# Altium integrated library Xilinx Spartan-3 FPGA.IntLib: 1115 symbols (part 6 of 7)
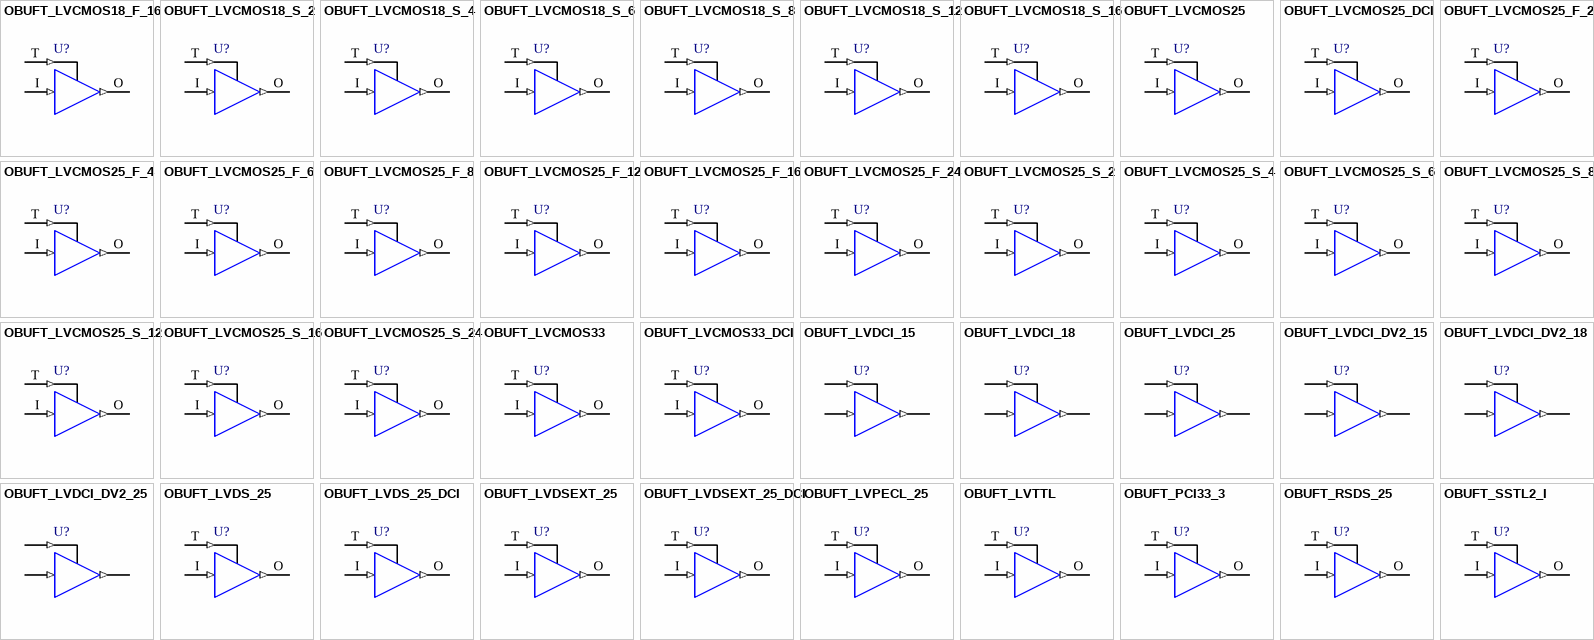
[diagram p33: symbols OBUFT_LVCMOS18_F_16 to OBUFT_SSTL2_I]

## OBUFT_LVDCI_15
designator U?
Single 3-State Output Buffer with Active-Low Output Enable and LVDCI_15 I/O Interface; FPGAVendor: Xilinx; Published: 15-Sep-2003; Publisher: Altium Limited; HelpURL: http://toolbox.xilinx.com/docsan/xilinx7/books/docs/lib/lib.pdf
pins: I (in), O (out), T (in)

## OBUFT_LVDCI_18
designator U?
Single 3-State Output Buffer with Active-Low Output Enable and LVDCI_18 I/O Interface; FPGAVendor: Xilinx; Published: 15-Sep-2003; Publisher: Altium Limited; HelpURL: http://toolbox.xilinx.com/docsan/xilinx7/books/docs/lib/lib.pdf
pins: I (in), O (out), T (in)

## OBUFT_LVDCI_25
designator U?
Single 3-State Output Buffer with Active-Low Output Enable and LVDCI_25 I/O Interface; FPGAVendor: Xilinx; Published: 15-Sep-2003; Publisher: Altium Limited; HelpURL: http://toolbox.xilinx.com/docsan/xilinx7/books/docs/lib/lib.pdf
pins: I (in), O (out), T (in)

## OBUFT_LVDCI_DV2_15
designator U?
Single 3-State Output Buffer with Active-Low Output Enable and LVDCI_DV2_15 I/O Interface; FPGAVendor: Xilinx; Published: 15-Sep-2003; Publisher: Altium Limited; HelpURL: http://toolbox.xilinx.com/docsan/xilinx7/books/docs/lib/lib.pdf
pins: I (in), O (out), T (in)

## OBUFT_LVDCI_DV2_18
designator U?
Single 3-State Output Buffer with Active-Low Output Enable and LVDCI_DV2_18 I/O Interface; FPGAVendor: Xilinx; Published: 15-Sep-2003; Publisher: Altium Limited; HelpURL: http://toolbox.xilinx.com/docsan/xilinx7/books/docs/lib/lib.pdf
pins: I (in), O (out), T (in)

## OBUFT_LVDCI_DV2_25
designator U?
Single 3-State Output Buffer with Active-Low Output Enable and LVDCI_DV2_25 I/O Interface; FPGAVendor: Xilinx; Published: 15-Sep-2003; Publisher: Altium Limited; HelpURL: http://toolbox.xilinx.com/docsan/xilinx7/books/docs/lib/lib.pdf
pins: I (in), O (out), T (in)

## OBUFT_LVDS_25
designator U?
Single 3-State Output Buffer with Active-Low Output Enable and Seletable I/O Interface; FPGAVendor: Xilinx; Published: 15-Sep-2008; Publisher: Altium Limited; HelpURL: http://www.xilinx.com/support/documentation/data_sheets/ds099.pdf
pins: I (in), O (out), T (in)

## OBUFT_LVDS_25_DCI
designator U?
Single 3-State Output Buffer with Active-Low Output Enable and Seletable I/O Interface; FPGAVendor: Xilinx; Published: 15-Sep-2008; Publisher: Altium Limited; HelpURL: http://www.xilinx.com/support/documentation/data_sheets/ds099.pdf
pins: I (in), O (out), T (in)

## OBUFT_LVDSEXT_25
designator U?
Single 3-State Output Buffer with Active-Low Output Enable and Seletable I/O Interface; FPGAVendor: Xilinx; Published: 15-Sep-2008; Publisher: Altium Limited; HelpURL: http://www.xilinx.com/support/documentation/data_sheets/ds099.pdf
pins: I (in), O (out), T (in)

## OBUFT_LVDSEXT_25_DCI
designator U?
Single 3-State Output Buffer with Active-Low Output Enable and Seletable I/O Interface; FPGAVendor: Xilinx; Published: 15-Sep-2008; Publisher: Altium Limited; HelpURL: http://www.xilinx.com/support/documentation/data_sheets/ds099.pdf
pins: I (in), O (out), T (in)

## OBUFT_LVPECL_25
designator U?
Single 3-State Output Buffer with Active-Low Output Enable and Seletable I/O Interface; FPGAVendor: Xilinx; Published: 15-Sep-2008; Publisher: Altium Limited; HelpURL: http://www.xilinx.com/support/documentation/data_sheets/ds099.pdf
pins: I (in), O (out), T (in)

## OBUFT_LVTTL
designator U?
Single 3-State Output Buffer with Active-Low Output Enable and Seletable I/O Interface; FPGAVendor: Xilinx; Published: 15-Sep-2008; Publisher: Altium Limited; HelpURL: http://www.xilinx.com/support/documentation/data_sheets/ds099.pdf
pins: I (in), O (out), T (in)

## OBUFT_PCI33_3
designator U?
Single 3-State Output Buffer with Active-Low Output Enable and Seletable I/O Interface; FPGAVendor: Xilinx; Published: 15-Sep-2008; Publisher: Altium Limited; HelpURL: http://www.xilinx.com/support/documentation/data_sheets/ds099.pdf
pins: I (in), O (out), T (in)

## OBUFT_RSDS_25
designator U?
Single 3-State Output Buffer with Active-Low Output Enable and Seletable I/O Interface; FPGAVendor: Xilinx; Published: 15-Sep-2008; Publisher: Altium Limited; HelpURL: http://www.xilinx.com/support/documentation/data_sheets/ds099.pdf
pins: I (in), O (out), T (in)

## OBUFT_SSTL2_I
designator U?
Single 3-State Output Buffer with Active-Low Output Enable and SSTL2_I I/O Interface; FPGAVendor: Xilinx; Published: 15-Sep-2003; Publisher: Altium Limited; HelpURL: http://toolbox.xilinx.com/docsan/xilinx7/books/docs/lib/lib.pdf
pins: I (in), O (out), T (in)

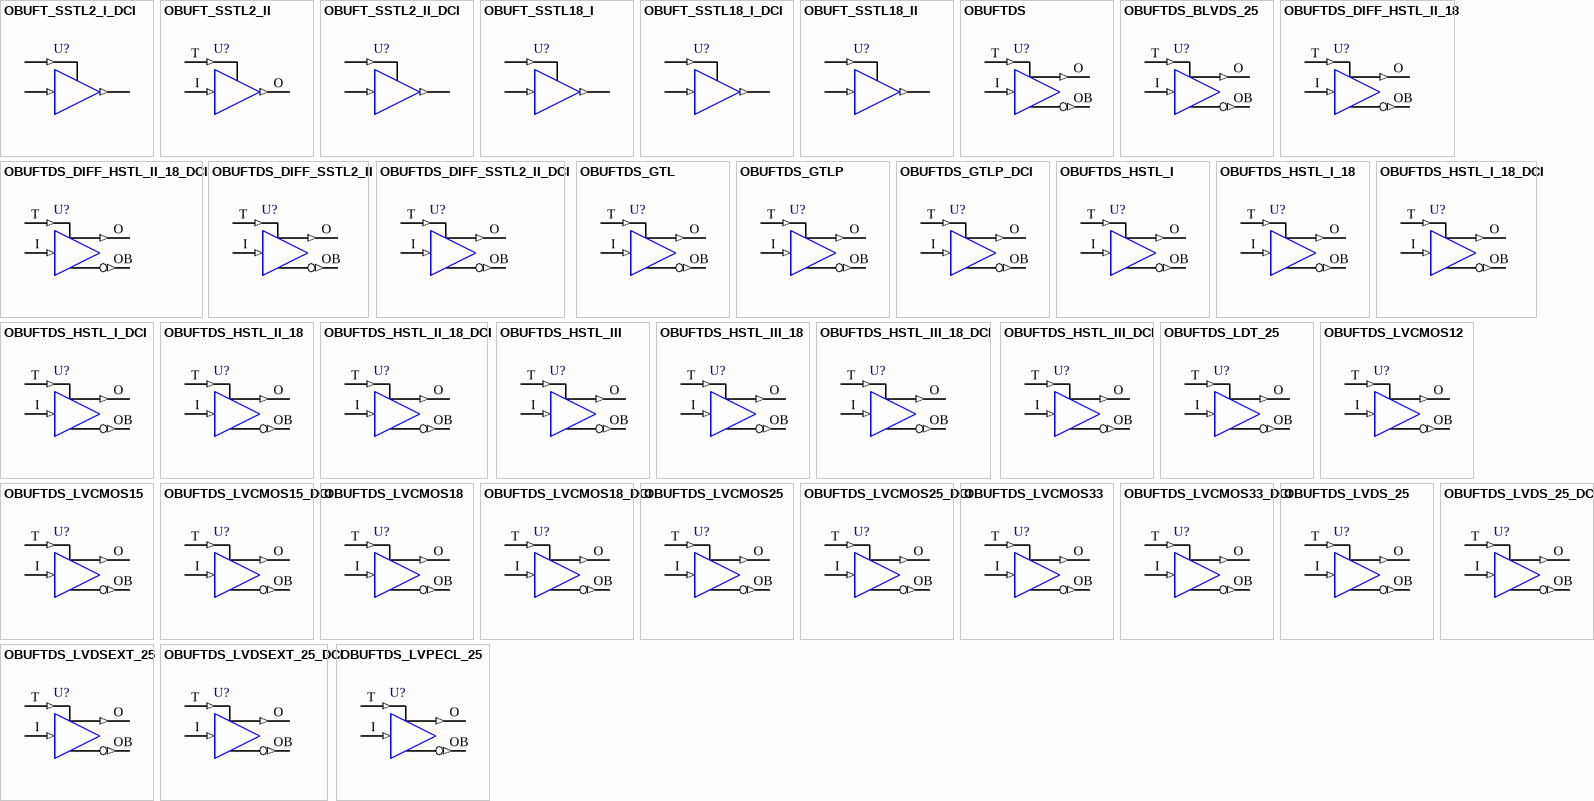
[diagram p23: symbols OBUFT_SSTL2_I_DCI to OBUFTDS_LVPECL_25]

## OBUFT_SSTL2_I_DCI
designator U?
Single 3-State Output Buffer with Active-Low Output Enable and SSTL2_I_DCI I/O Interface; FPGAVendor: Xilinx; Published: 15-Sep-2003; Publisher: Altium Limited; HelpURL: http://toolbox.xilinx.com/docsan/xilinx7/books/docs/lib/lib.pdf
pins: I (in), O (out), T (in)

## OBUFT_SSTL2_II
designator U?
Single 3-State Output Buffer with Active-Low Output Enable and SSTL2_II I/O Interface; FPGAVendor: Xilinx; Published: 15-Sep-2003; Publisher: Altium Limited; HelpURL: http://toolbox.xilinx.com/docsan/xilinx7/books/docs/lib/lib.pdf
pins: I (in), O (out), T (in)

## OBUFT_SSTL2_II_DCI
designator U?
Single 3-State Output Buffer with Active-Low Output Enable and SSTL2_II_DCI I/O Interface; FPGAVendor: Xilinx; Published: 15-Sep-2003; Publisher: Altium Limited; HelpURL: http://toolbox.xilinx.com/docsan/xilinx7/books/docs/lib/lib.pdf
pins: I (in), O (out), T (in)

## OBUFT_SSTL18_I
designator U?
Single 3-State Output Buffer with Active-Low Output Enable and SSTL18_I I/O Interface; FPGAVendor: Xilinx; Published: 15-Sep-2003; Publisher: Altium Limited; HelpURL: http://toolbox.xilinx.com/docsan/xilinx7/books/docs/lib/lib.pdf
pins: I (in), O (out), T (in)

## OBUFT_SSTL18_I_DCI
designator U?
Single 3-State Output Buffer with Active-Low Output Enable and SSTL18_I_DCI I/O Interface; FPGAVendor: Xilinx; Published: 15-Sep-2003; Publisher: Altium Limited; HelpURL: http://toolbox.xilinx.com/docsan/xilinx7/books/docs/lib/lib.pdf
pins: I (in), O (out), T (in)

## OBUFT_SSTL18_II
designator U?
Single 3-State Output Buffer with Active-Low Output Enable and SSTL18_II I/O Interface; FPGAVendor: Xilinx; Published: 15-Sep-2003; Publisher: Altium Limited; HelpURL: http://toolbox.xilinx.com/docsan/xilinx7/books/docs/lib/lib.pdf
pins: I (in), O (out), T (in)

## OBUFTDS
designator U?
3-State Differential Signaling Output Buffer with Active Low Output Enable and Selectable I/O Interface; FPGAVendor: Xilinx; Published: 20-May-2005; Publisher: Altium Limited; HelpURL: http://toolbox.xilinx.com/docsan/xilinx7/books/docs/lib/lib.pdf
pins: I (in), O (out), OB (out), T (in)

## OBUFTDS_BLVDS_25
designator U?
3-State Differential Signaling Output Buffer with Active Low Output Enable and Selectable I/O Interface; FPGAVendor: Xilinx; Published: 15-Sep-2008; Publisher: Altium Limited; HelpURL: http://www.xilinx.com/support/documentation/data_sheets/ds099.pdf
pins: I (in), O (out), OB (out), T (in)

## OBUFTDS_DIFF_HSTL_II_18
designator U?
3-State Differential Signaling Output Buffer with Active Low Output Enable and Selectable I/O Interface; FPGAVendor: Xilinx; Published: 15-Sep-2008; Publisher: Altium Limited; HelpURL: http://www.xilinx.com/support/documentation/data_sheets/ds099.pdf
pins: I (in), O (out), OB (out), T (in)

## OBUFTDS_DIFF_HSTL_II_18_DCI
designator U?
3-State Differential Signaling Output Buffer with Active Low Output Enable and Selectable I/O Interface; FPGAVendor: Xilinx; Published: 15-Sep-2008; Publisher: Altium Limited; HelpURL: http://www.xilinx.com/support/documentation/data_sheets/ds099.pdf
pins: I (in), O (out), OB (out), T (in)

## OBUFTDS_DIFF_SSTL2_II
designator U?
3-State Differential Signaling Output Buffer with Active Low Output Enable and Selectable I/O Interface; FPGAVendor: Xilinx; Published: 15-Sep-2008; Publisher: Altium Limited; HelpURL: http://www.xilinx.com/support/documentation/data_sheets/ds099.pdf
pins: I (in), O (out), OB (out), T (in)

## OBUFTDS_DIFF_SSTL2_II_DCI
designator U?
3-State Differential Signaling Output Buffer with Active Low Output Enable and Selectable I/O Interface; FPGAVendor: Xilinx; Published: 15-Sep-2008; Publisher: Altium Limited; HelpURL: http://www.xilinx.com/support/documentation/data_sheets/ds099.pdf
pins: I (in), O (out), OB (out), T (in)

## OBUFTDS_GTL
designator U?
3-State Differential Signaling Output Buffer with Active Low Output Enable and Selectable I/O Interface; FPGAVendor: Xilinx; Published: 15-Sep-2008; Publisher: Altium Limited; HelpURL: http://www.xilinx.com/support/documentation/data_sheets/ds099.pdf
pins: I (in), O (out), OB (out), T (in)

## OBUFTDS_GTLP
designator U?
3-State Differential Signaling Output Buffer with Active Low Output Enable and Selectable I/O Interface; FPGAVendor: Xilinx; Published: 15-Sep-2008; Publisher: Altium Limited; HelpURL: http://www.xilinx.com/support/documentation/data_sheets/ds099.pdf
pins: I (in), O (out), OB (out), T (in)

## OBUFTDS_GTLP_DCI
designator U?
3-State Differential Signaling Output Buffer with Active Low Output Enable and Selectable I/O Interface; FPGAVendor: Xilinx; Published: 15-Sep-2008; Publisher: Altium Limited; HelpURL: http://www.xilinx.com/support/documentation/data_sheets/ds099.pdf
pins: I (in), O (out), OB (out), T (in)

## OBUFTDS_HSTL_I
designator U?
3-State Differential Signaling Output Buffer with Active Low Output Enable and Selectable I/O Interface; FPGAVendor: Xilinx; Published: 15-Sep-2008; Publisher: Altium Limited; HelpURL: http://www.xilinx.com/support/documentation/data_sheets/ds099.pdf
pins: I (in), O (out), OB (out), T (in)

## OBUFTDS_HSTL_I_18
designator U?
3-State Differential Signaling Output Buffer with Active Low Output Enable and Selectable I/O Interface; FPGAVendor: Xilinx; Published: 15-Sep-2008; Publisher: Altium Limited; HelpURL: http://www.xilinx.com/support/documentation/data_sheets/ds099.pdf
pins: I (in), O (out), OB (out), T (in)

## OBUFTDS_HSTL_I_18_DCI
designator U?
3-State Differential Signaling Output Buffer with Active Low Output Enable and Selectable I/O Interface; FPGAVendor: Xilinx; Published: 15-Sep-2008; Publisher: Altium Limited; HelpURL: http://www.xilinx.com/support/documentation/data_sheets/ds099.pdf
pins: I (in), O (out), OB (out), T (in)

## OBUFTDS_HSTL_I_DCI
designator U?
3-State Differential Signaling Output Buffer with Active Low Output Enable and Selectable I/O Interface; FPGAVendor: Xilinx; Published: 15-Sep-2008; Publisher: Altium Limited; HelpURL: http://www.xilinx.com/support/documentation/data_sheets/ds099.pdf
pins: I (in), O (out), OB (out), T (in)

## OBUFTDS_HSTL_II_18
designator U?
3-State Differential Signaling Output Buffer with Active Low Output Enable and Selectable I/O Interface; FPGAVendor: Xilinx; Published: 15-Sep-2008; Publisher: Altium Limited; HelpURL: http://www.xilinx.com/support/documentation/data_sheets/ds099.pdf
pins: I (in), O (out), OB (out), T (in)

## OBUFTDS_HSTL_II_18_DCI
designator U?
3-State Differential Signaling Output Buffer with Active Low Output Enable and Selectable I/O Interface; FPGAVendor: Xilinx; Published: 15-Sep-2008; Publisher: Altium Limited; HelpURL: http://www.xilinx.com/support/documentation/data_sheets/ds099.pdf
pins: I (in), O (out), OB (out), T (in)

## OBUFTDS_HSTL_III
designator U?
3-State Differential Signaling Output Buffer with Active Low Output Enable and Selectable I/O Interface; FPGAVendor: Xilinx; Published: 15-Sep-2008; Publisher: Altium Limited; HelpURL: http://www.xilinx.com/support/documentation/data_sheets/ds099.pdf
pins: I (in), O (out), OB (out), T (in)

## OBUFTDS_HSTL_III_18
designator U?
3-State Differential Signaling Output Buffer with Active Low Output Enable and Selectable I/O Interface; FPGAVendor: Xilinx; Published: 15-Sep-2008; Publisher: Altium Limited; HelpURL: http://www.xilinx.com/support/documentation/data_sheets/ds099.pdf
pins: I (in), O (out), OB (out), T (in)

## OBUFTDS_HSTL_III_18_DCI
designator U?
3-State Differential Signaling Output Buffer with Active Low Output Enable and Selectable I/O Interface; FPGAVendor: Xilinx; Published: 15-Sep-2008; Publisher: Altium Limited; HelpURL: http://www.xilinx.com/support/documentation/data_sheets/ds099.pdf
pins: I (in), O (out), OB (out), T (in)

## OBUFTDS_HSTL_III_DCI
designator U?
3-State Differential Signaling Output Buffer with Active Low Output Enable and Selectable I/O Interface; FPGAVendor: Xilinx; Published: 15-Sep-2008; Publisher: Altium Limited; HelpURL: http://www.xilinx.com/support/documentation/data_sheets/ds099.pdf
pins: I (in), O (out), OB (out), T (in)

## OBUFTDS_LDT_25
designator U?
3-State Differential Signaling Output Buffer with Active Low Output Enable and LDT_25 I/O Interface; FPGAVendor: Xilinx; Published: 15-Sep-2003; Publisher: Altium Limited; HelpURL: http://toolbox.xilinx.com/docsan/xilinx7/books/docs/lib/lib.pdf
pins: I (in), O (out), OB (out), T (in)

## OBUFTDS_LVCMOS12
designator U?
3-State Differential Signaling Output Buffer with Active Low Output Enable and Selectable I/O Interface; FPGAVendor: Xilinx; Published: 15-Sep-2008; Publisher: Altium Limited; HelpURL: http://www.xilinx.com/support/documentation/data_sheets/ds099.pdf
pins: I (in), O (out), OB (out), T (in)

## OBUFTDS_LVCMOS15
designator U?
3-State Differential Signaling Output Buffer with Active Low Output Enable and Selectable I/O Interface; FPGAVendor: Xilinx; Published: 15-Sep-2008; Publisher: Altium Limited; HelpURL: http://www.xilinx.com/support/documentation/data_sheets/ds099.pdf
pins: I (in), O (out), OB (out), T (in)

## OBUFTDS_LVCMOS15_DCI
designator U?
3-State Differential Signaling Output Buffer with Active Low Output Enable and Selectable I/O Interface; FPGAVendor: Xilinx; Published: 15-Sep-2008; Publisher: Altium Limited; HelpURL: http://www.xilinx.com/support/documentation/data_sheets/ds099.pdf
pins: I (in), O (out), OB (out), T (in)

## OBUFTDS_LVCMOS18
designator U?
3-State Differential Signaling Output Buffer with Active Low Output Enable and Selectable I/O Interface; FPGAVendor: Xilinx; Published: 15-Sep-2008; Publisher: Altium Limited; HelpURL: http://www.xilinx.com/support/documentation/data_sheets/ds099.pdf
pins: I (in), O (out), OB (out), T (in)

## OBUFTDS_LVCMOS18_DCI
designator U?
3-State Differential Signaling Output Buffer with Active Low Output Enable and Selectable I/O Interface; FPGAVendor: Xilinx; Published: 15-Sep-2008; Publisher: Altium Limited; HelpURL: http://www.xilinx.com/support/documentation/data_sheets/ds099.pdf
pins: I (in), O (out), OB (out), T (in)

## OBUFTDS_LVCMOS25
designator U?
3-State Differential Signaling Output Buffer with Active Low Output Enable and Selectable I/O Interface; FPGAVendor: Xilinx; Published: 15-Sep-2008; Publisher: Altium Limited; HelpURL: http://www.xilinx.com/support/documentation/data_sheets/ds099.pdf
pins: I (in), O (out), OB (out), T (in)

## OBUFTDS_LVCMOS25_DCI
designator U?
3-State Differential Signaling Output Buffer with Active Low Output Enable and Selectable I/O Interface; FPGAVendor: Xilinx; Published: 15-Sep-2008; Publisher: Altium Limited; HelpURL: http://www.xilinx.com/support/documentation/data_sheets/ds099.pdf
pins: I (in), O (out), OB (out), T (in)

## OBUFTDS_LVCMOS33
designator U?
3-State Differential Signaling Output Buffer with Active Low Output Enable and Selectable I/O Interface; FPGAVendor: Xilinx; Published: 15-Sep-2008; Publisher: Altium Limited; HelpURL: http://www.xilinx.com/support/documentation/data_sheets/ds099.pdf
pins: I (in), O (out), OB (out), T (in)

## OBUFTDS_LVCMOS33_DCI
designator U?
3-State Differential Signaling Output Buffer with Active Low Output Enable and Selectable I/O Interface; FPGAVendor: Xilinx; Published: 15-Sep-2008; Publisher: Altium Limited; HelpURL: http://www.xilinx.com/support/documentation/data_sheets/ds099.pdf
pins: I (in), O (out), OB (out), T (in)

## OBUFTDS_LVDS_25
designator U?
3-State Differential Signaling Output Buffer with Active Low Output Enable and LVDS_25 I/O Interface; FPGAVendor: Xilinx; Published: 15-Sep-2003; Publisher: Altium Limited; HelpURL: http://toolbox.xilinx.com/docsan/xilinx7/books/docs/lib/lib.pdf
pins: I (in), O (out), OB (out), T (in)

## OBUFTDS_LVDS_25_DCI
designator U?
3-State Differential Signaling Output Buffer with Active Low Output Enable and Selectable I/O Interface; FPGAVendor: Xilinx; Published: 15-Sep-2008; Publisher: Altium Limited; HelpURL: http://www.xilinx.com/support/documentation/data_sheets/ds099.pdf
pins: I (in), O (out), OB (out), T (in)

## OBUFTDS_LVDSEXT_25
designator U?
3-State Differential Signaling Output Buffer with Active Low Output Enable and LVDSEXT_25 I/O Interface; FPGAVendor: Xilinx; Published: 15-Sep-2003; Publisher: Altium Limited; HelpURL: http://toolbox.xilinx.com/docsan/xilinx7/books/docs/lib/lib.pdf
pins: I (in), O (out), OB (out), T (in)

## OBUFTDS_LVDSEXT_25_DCI
designator U?
3-State Differential Signaling Output Buffer with Active Low Output Enable and Selectable I/O Interface; FPGAVendor: Xilinx; Published: 15-Sep-2008; Publisher: Altium Limited; HelpURL: http://www.xilinx.com/support/documentation/data_sheets/ds099.pdf
pins: I (in), O (out), OB (out), T (in)

## OBUFTDS_LVPECL_25
designator U?
3-State Differential Signaling Output Buffer with Active Low Output Enable and Selectable I/O Interface; FPGAVendor: Xilinx; Published: 15-Sep-2008; Publisher: Altium Limited; HelpURL: http://www.xilinx.com/support/documentation/data_sheets/ds099.pdf
pins: I (in), O (out), OB (out), T (in)

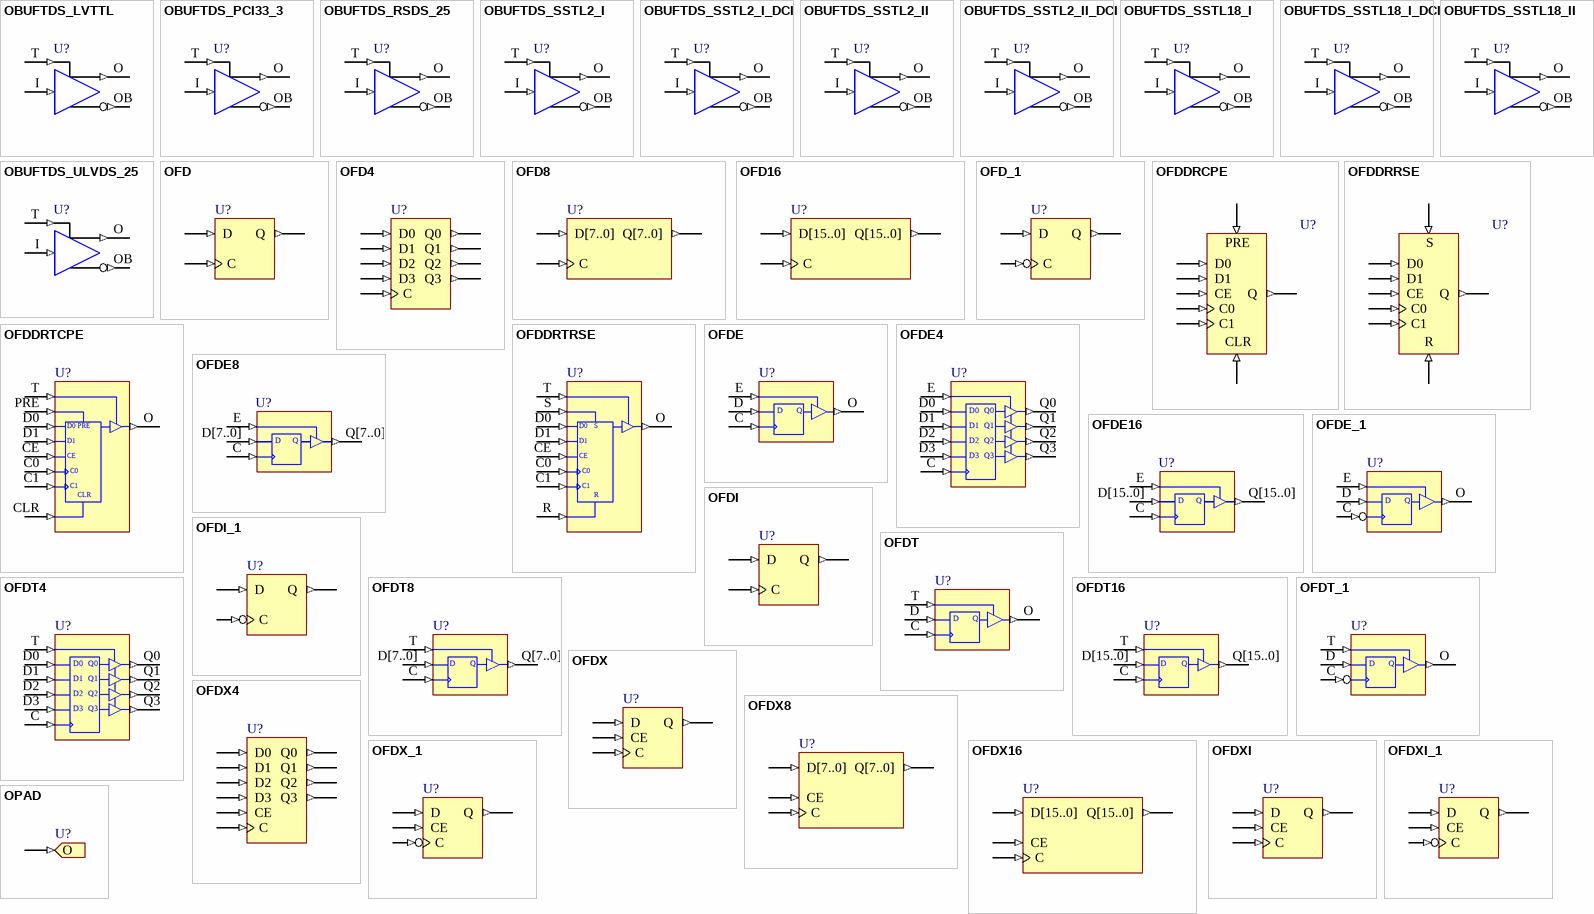
[diagram p24: symbols OBUFTDS_LVTTL to OPAD]

## OBUFTDS_LVTTL
designator U?
3-State Differential Signaling Output Buffer with Active Low Output Enable and Selectable I/O Interface; FPGAVendor: Xilinx; Published: 15-Sep-2008; Publisher: Altium Limited; HelpURL: http://www.xilinx.com/support/documentation/data_sheets/ds099.pdf
pins: I (in), O (out), OB (out), T (in)

## OBUFTDS_PCI33_3
designator U?
3-State Differential Signaling Output Buffer with Active Low Output Enable and Selectable I/O Interface; FPGAVendor: Xilinx; Published: 15-Sep-2008; Publisher: Altium Limited; HelpURL: http://www.xilinx.com/support/documentation/data_sheets/ds099.pdf
pins: I (in), O (out), OB (out), T (in)

## OBUFTDS_RSDS_25
designator U?
3-State Differential Signaling Output Buffer with Active Low Output Enable and Selectable I/O Interface; FPGAVendor: Xilinx; Published: 15-Sep-2008; Publisher: Altium Limited; HelpURL: http://www.xilinx.com/support/documentation/data_sheets/ds099.pdf
pins: I (in), O (out), OB (out), T (in)

## OBUFTDS_SSTL2_I
designator U?
3-State Differential Signaling Output Buffer with Active Low Output Enable and Selectable I/O Interface; FPGAVendor: Xilinx; Published: 15-Sep-2008; Publisher: Altium Limited; HelpURL: http://www.xilinx.com/support/documentation/data_sheets/ds099.pdf
pins: I (in), O (out), OB (out), T (in)

## OBUFTDS_SSTL2_I_DCI
designator U?
3-State Differential Signaling Output Buffer with Active Low Output Enable and Selectable I/O Interface; FPGAVendor: Xilinx; Published: 15-Sep-2008; Publisher: Altium Limited; HelpURL: http://www.xilinx.com/support/documentation/data_sheets/ds099.pdf
pins: I (in), O (out), OB (out), T (in)

## OBUFTDS_SSTL2_II
designator U?
3-State Differential Signaling Output Buffer with Active Low Output Enable and Selectable I/O Interface; FPGAVendor: Xilinx; Published: 15-Sep-2008; Publisher: Altium Limited; HelpURL: http://www.xilinx.com/support/documentation/data_sheets/ds099.pdf
pins: I (in), O (out), OB (out), T (in)

## OBUFTDS_SSTL2_II_DCI
designator U?
3-State Differential Signaling Output Buffer with Active Low Output Enable and Selectable I/O Interface; FPGAVendor: Xilinx; Published: 15-Sep-2008; Publisher: Altium Limited; HelpURL: http://www.xilinx.com/support/documentation/data_sheets/ds099.pdf
pins: I (in), O (out), OB (out), T (in)

## OBUFTDS_SSTL18_I
designator U?
3-State Differential Signaling Output Buffer with Active Low Output Enable and Selectable I/O Interface; FPGAVendor: Xilinx; Published: 15-Sep-2008; Publisher: Altium Limited; HelpURL: http://www.xilinx.com/support/documentation/data_sheets/ds099.pdf
pins: I (in), O (out), OB (out), T (in)

## OBUFTDS_SSTL18_I_DCI
designator U?
3-State Differential Signaling Output Buffer with Active Low Output Enable and Selectable I/O Interface; FPGAVendor: Xilinx; Published: 15-Sep-2008; Publisher: Altium Limited; HelpURL: http://www.xilinx.com/support/documentation/data_sheets/ds099.pdf
pins: I (in), O (out), OB (out), T (in)

## OBUFTDS_SSTL18_II
designator U?
3-State Differential Signaling Output Buffer with Active Low Output Enable and Selectable I/O Interface; FPGAVendor: Xilinx; Published: 15-Sep-2008; Publisher: Altium Limited; HelpURL: http://www.xilinx.com/support/documentation/data_sheets/ds099.pdf
pins: I (in), O (out), OB (out), T (in)

## OBUFTDS_ULVDS_25
designator U?
3-State Differential Signaling Output Buffer with Active Low Output Enable and ULVDS_25 I/O Interface; FPGAVendor: Xilinx; Published: 15-Sep-2003; Publisher: Altium Limited; HelpURL: http://toolbox.xilinx.com/docsan/xilinx7/books/docs/lib/lib.pdf
pins: I (in), O (out), OB (out), T (in)

## OFD
designator U?
Single-Output D Flip-Flop; FPGAVendor: Xilinx; Published: 15-Sep-2003; Publisher: Altium Limited; HelpURL: http://toolbox.xilinx.com/docsan/xilinx7/books/docs/lib/lib.pdf
pins: C (in), D (in), Q (out)

## OFD4
designator U?
Multiple-Output D Flip-Flop; FPGAVendor: Xilinx; Published: 15-Sep-2003; Publisher: Altium Limited; HelpURL: http://toolbox.xilinx.com/docsan/xilinx7/books/docs/lib/lib.pdf
pins: C (in), D0 (in), D1 (in), D2 (in), D3 (in), Q0 (out), Q1 (out), Q2 (out), Q3 (out)

## OFD8
designator U?
Multiple-Output D Flip-Flop; FPGAVendor: Xilinx; Published: 15-Sep-2003; Publisher: Altium Limited; HelpURL: http://toolbox.xilinx.com/docsan/xilinx7/books/docs/lib/lib.pdf
pins: C (in), D[7..0] (in), Q[7..0] (out)

## OFD16
designator U?
Multiple-Output D Flip-Flop; FPGAVendor: Xilinx; Published: 15-Sep-2003; Publisher: Altium Limited; HelpURL: http://toolbox.xilinx.com/docsan/xilinx7/books/docs/lib/lib.pdf
pins: C (in), D[15..0] (in), Q[15..0] (out)

## OFD_1
designator U?
Output D Flip-Flop with Inverted Clock; FPGAVendor: Xilinx; Published: 15-Sep-2003; Publisher: Altium Limited; HelpURL: http://toolbox.xilinx.com/docsan/xilinx7/books/docs/lib/lib.pdf
pins: C (in), D (in), Q (out)

## OFDDRCPE
designator U?
Dual Data Rate Output D Flip-Flop with Clock Enable and Asynchronous Preset and Clear; FPGAVendor: Xilinx; Published: 15-Sep-2003; Publisher: Altium Limited; HelpURL: http://toolbox.xilinx.com/docsan/xilinx7/books/docs/lib/lib.pdf
pins: C0 (in), C1 (in), CE (in), CLR (in), D0 (in), D1 (in), PRE (in), Q (out)

## OFDDRRSE
designator U?
Dual Data Rate Output D Flip-Flop with Synchronous Reset and Set and Clock Enable; FPGAVendor: Xilinx; Published: 15-Sep-2003; Publisher: Altium Limited; HelpURL: http://toolbox.xilinx.com/docsan/xilinx7/books/docs/lib/lib.pdf
pins: C0 (in), C1 (in), CE (in), D0 (in), D1 (in), Q (out), R (in), S (in)

## OFDDRTCPE
designator U?
Dual Data Rate D Flip-Flop with Active-Low 3-State Output Buffer, Clock Enable, and Asynchronous Preset and Clear; FPGAVendor: Xilinx; Published: 15-Sep-2003; Publisher: Altium Limited; HelpURL: http://toolbox.xilinx.com/docsan/xilinx7/books/docs/lib/lib.pdf
pins: C0 (in), C1 (in), CE (in), CLR (in), D0 (in), D1 (in), O (out), PRE (in), T (in)

## OFDDRTRSE
designator U?
Dual Data Rate D Flip-Flop with Active-Low 3-State Output Buffer, Synchronous Reset and Set, and Clock Enable; FPGAVendor: Xilinx; Published: 15-Sep-2003; Publisher: Altium Limited; HelpURL: http://toolbox.xilinx.com/docsan/xilinx7/books/docs/lib/lib.pdf
pins: C0 (in), C1 (in), CE (in), D0 (in), D1 (in), O (out), R (in), S (in), T (in)

## OFDE
designator U?
D Flip-Flop with Active-High Enable Output Buffer; FPGAVendor: Xilinx; Published: 15-Sep-2003; Publisher: Altium Limited; HelpURL: http://toolbox.xilinx.com/docsan/xilinx7/books/docs/lib/lib.pdf
pins: C (in), D (in), E (in), O (out)
text: Q

## OFDE4
designator U?
D Flip-Flops with Active-High Enable Output Buffers; FPGAVendor: Xilinx; Published: 15-Sep-2003; Publisher: Altium Limited; HelpURL: http://toolbox.xilinx.com/docsan/xilinx7/books/docs/lib/lib.pdf
pins: C (in), D0 (in), D1 (in), D2 (in), D3 (in), E (in), Q0 (out), Q1 (out), Q2 (out), Q3 (out)

## OFDE8
designator U?
D Flip-Flops with Active-High Enable Output Buffers; FPGAVendor: Xilinx; Published: 15-Sep-2003; Publisher: Altium Limited; HelpURL: http://toolbox.xilinx.com/docsan/xilinx7/books/docs/lib/lib.pdf
pins: C (in), D[7..0] (in), E (in), Q[7..0] (out)
text: D; Q

## OFDE16
designator U?
D Flip-Flops with Active-High Enable Output Buffers; FPGAVendor: Xilinx; Published: 15-Sep-2003; Publisher: Altium Limited; HelpURL: http://toolbox.xilinx.com/docsan/xilinx7/books/docs/lib/lib.pdf
pins: C (in), D[15..0] (in), E (in), Q[15..0] (out)
text: D; Q

## OFDE_1
designator U?
D Flip-Flop with Active-High Enable Output Buffer and Inverted Clock; FPGAVendor: Xilinx; Published: 15-Sep-2003; Publisher: Altium Limited; HelpURL: http://toolbox.xilinx.com/docsan/xilinx7/books/docs/lib/lib.pdf
pins: C (in), D (in), E (in), O (out)
text: Q

## OFDI
designator U?
Output D Flip-Flop (Asynchronous Preset); FPGAVendor: Xilinx; Published: 15-Sep-2003; Publisher: Altium Limited; HelpURL: http://toolbox.xilinx.com/docsan/xilinx7/books/docs/lib/lib.pdf
pins: C (in), D (in), Q (out)

## OFDI_1
designator U?
Output D Flip-Flop with Inverted Clock (Asynchronous Preset); FPGAVendor: Xilinx; Published: 15-Sep-2003; Publisher: Altium Limited; HelpURL: http://toolbox.xilinx.com/docsan/xilinx7/books/docs/lib/lib.pdf
pins: C (in), D (in), Q (out)

## OFDT
designator U?
Single D Flip-Flop with Active-Low 3-State Output Enable Buffer; FPGAVendor: Xilinx; Published: 15-Sep-2003; Publisher: Altium Limited; HelpURL: http://toolbox.xilinx.com/docsan/xilinx7/books/docs/lib/lib.pdf
pins: C (in), D (in), O (out), T (in)
text: Q

## OFDT4
designator U?
Multiple D Flip-Flops with Active-Low 3-State Output Enable Buffers; FPGAVendor: Xilinx; Published: 15-Sep-2003; Publisher: Altium Limited; HelpURL: http://toolbox.xilinx.com/docsan/xilinx7/books/docs/lib/lib.pdf
pins: C (in), D0 (in), D1 (in), D2 (in), D3 (in), Q0 (out), Q1 (out), Q2 (out), Q3 (out), T (in)

## OFDT8
designator U?
Multiple D Flip-Flops with Active-Low 3-State Output Enable Buffers; FPGAVendor: Xilinx; Published: 15-Sep-2003; Publisher: Altium Limited; HelpURL: http://toolbox.xilinx.com/docsan/xilinx7/books/docs/lib/lib.pdf
pins: C (in), D[7..0] (in), Q[7..0] (out), T (in)
text: D; Q

## OFDT16
designator U?
Multiple D Flip-Flops with Active-Low 3-State Output Enable Buffers; FPGAVendor: Xilinx; Published: 15-Sep-2003; Publisher: Altium Limited; HelpURL: http://toolbox.xilinx.com/docsan/xilinx7/books/docs/lib/lib.pdf
pins: C (in), D[15..0] (in), Q[15..0] (out), T (in)
text: D; Q

## OFDT_1
designator U?
D Flip-Flop with Active-Low 3-State Output Buffer and Inverted Clock; FPGAVendor: Xilinx; Published: 15-Sep-2003; Publisher: Altium Limited; HelpURL: http://toolbox.xilinx.com/docsan/xilinx7/books/docs/lib/lib.pdf
pins: C (in), D (in), O (out), T (in)
text: Q

## OFDX
designator U?
Single-Output D Flip-Flop with Clock Enable; FPGAVendor: Xilinx; Published: 15-Sep-2003; Publisher: Altium Limited; HelpURL: http://toolbox.xilinx.com/docsan/xilinx7/books/docs/lib/lib.pdf
pins: C (in), CE (in), D (in), Q (out)

## OFDX4
designator U?
Multiple-Output D Flip-Flops with Clock Enable; FPGAVendor: Xilinx; Published: 15-Sep-2003; Publisher: Altium Limited; HelpURL: http://toolbox.xilinx.com/docsan/xilinx7/books/docs/lib/lib.pdf
pins: C (in), CE (in), D0 (in), D1 (in), D2 (in), D3 (in), Q0 (out), Q1 (out), Q2 (out), Q3 (out)

## OFDX8
designator U?
Multiple-Output D Flip-Flops with Clock Enable; FPGAVendor: Xilinx; Published: 15-Sep-2003; Publisher: Altium Limited; HelpURL: http://toolbox.xilinx.com/docsan/xilinx7/books/docs/lib/lib.pdf
pins: C (in), CE (in), D[7..0] (in), Q[7..0] (out)

## OFDX16
designator U?
Multiple-Output D Flip-Flops with Clock Enable; FPGAVendor: Xilinx; Published: 15-Sep-2003; Publisher: Altium Limited; HelpURL: http://toolbox.xilinx.com/docsan/xilinx7/books/docs/lib/lib.pdf
pins: C (in), CE (in), D[15..0] (in), Q[15..0] (out)

## OFDX_1
designator U?
Output D Flip-Flop with Inverted Clock and Clock Enable; FPGAVendor: Xilinx; Published: 15-Sep-2003; Publisher: Altium Limited; HelpURL: http://toolbox.xilinx.com/docsan/xilinx7/books/docs/lib/lib.pdf
pins: C (in), CE (in), D (in), Q (out)

## OFDXI
designator U?
Output D Flip-Flop with Clock Enable (Asynchronous Preset); FPGAVendor: Xilinx; Published: 15-Sep-2003; Publisher: Altium Limited; HelpURL: http://toolbox.xilinx.com/docsan/xilinx7/books/docs/lib/lib.pdf
pins: C (in), CE (in), D (in), Q (out)

## OFDXI_1
designator U?
Output D Flip-Flop with Inverted Clock and Clock Enable (Asynchronous Preset); FPGAVendor: Xilinx; Published: 15-Sep-2003; Publisher: Altium Limited; HelpURL: http://toolbox.xilinx.com/docsan/xilinx7/books/docs/lib/lib.pdf
pins: C (in), CE (in), D (in), Q (out)

## OPAD
designator U?
Single-Output Pad; FPGAVendor: Xilinx; Published: 15-Sep-2003; Publisher: Altium Limited; HelpURL: http://toolbox.xilinx.com/docsan/xilinx7/books/docs/lib/lib.pdf
pins: O (in)

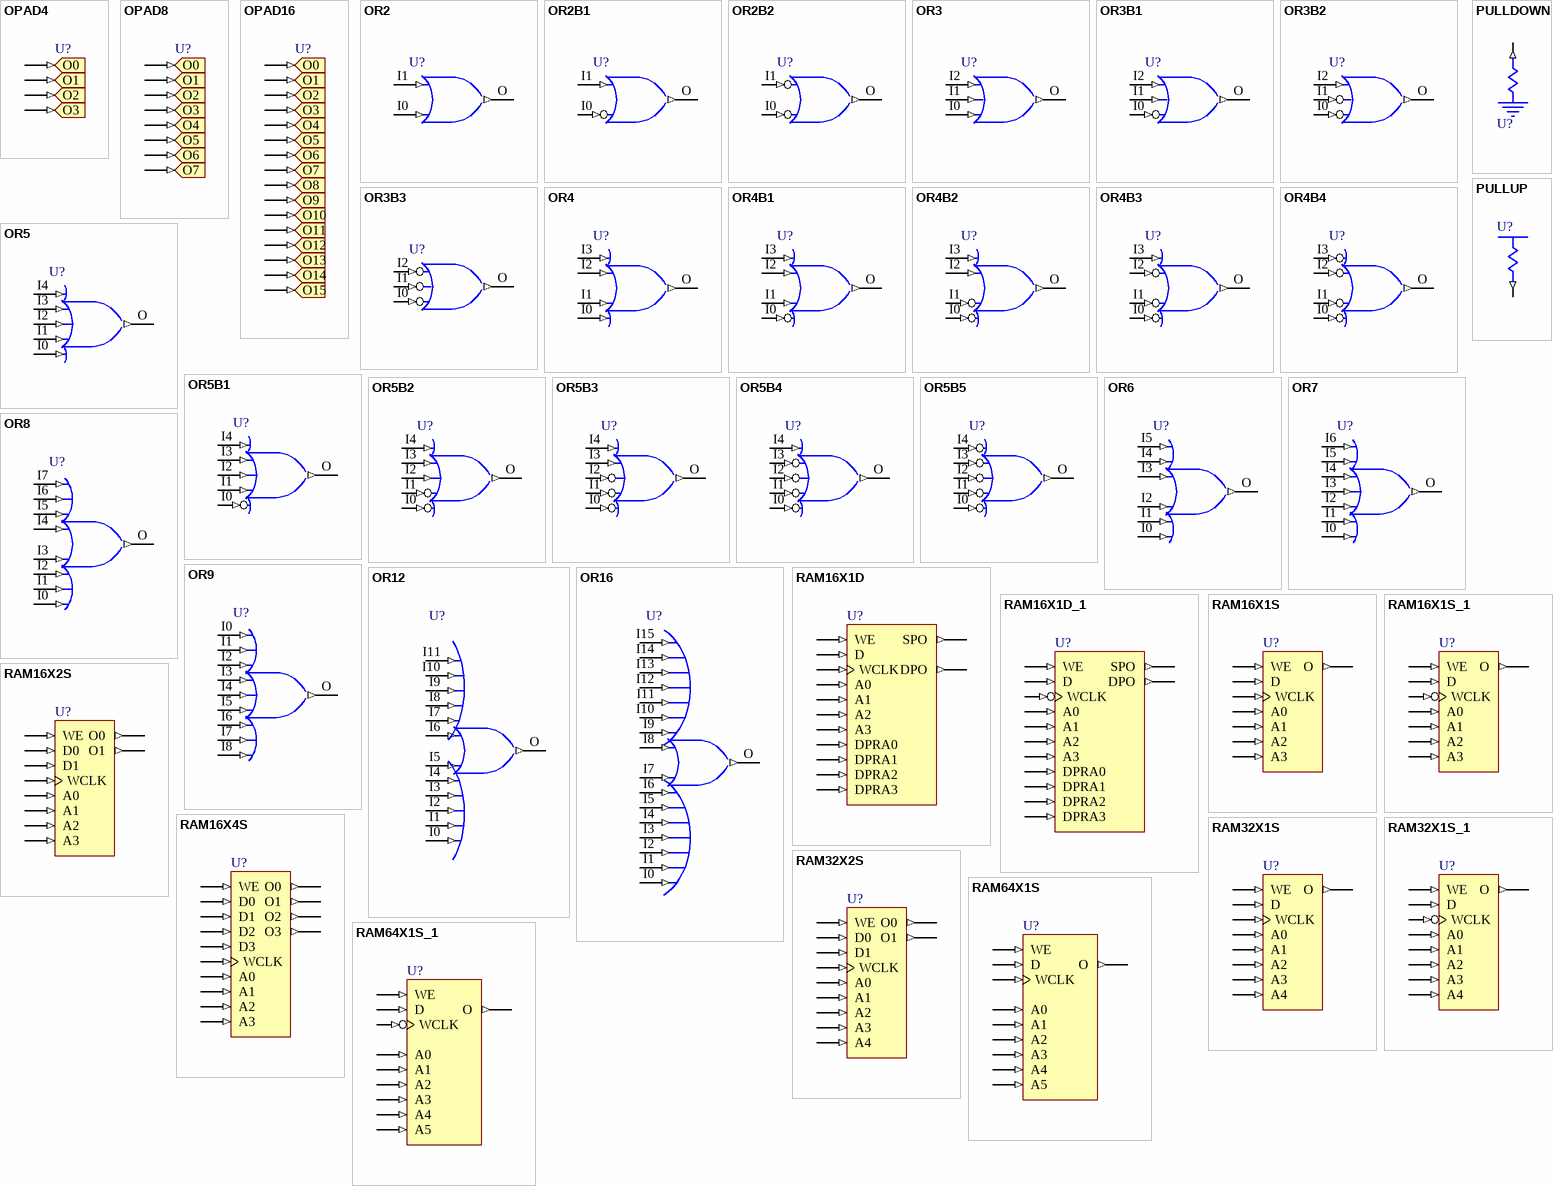
[diagram p25: symbols OPAD4 to RAM64X1S_1]

## OPAD4
designator U?
Multiple-Output Pads; FPGAVendor: Xilinx; Published: 15-Sep-2003; Publisher: Altium Limited; HelpURL: http://toolbox.xilinx.com/docsan/xilinx7/books/docs/lib/lib.pdf
pins: O0 (in), O1 (in), O2 (in), O3 (in)

## OPAD8
designator U?
Multiple-Output Pads; FPGAVendor: Xilinx; Published: 15-Sep-2003; Publisher: Altium Limited; HelpURL: http://toolbox.xilinx.com/docsan/xilinx7/books/docs/lib/lib.pdf
pins: O0 (in), O1 (in), O2 (in), O3 (in), O4 (in), O5 (in), O6 (in), O7 (in)

## OPAD16
designator U?
Multiple-Output Pads; FPGAVendor: Xilinx; Published: 15-Sep-2003; Publisher: Altium Limited; HelpURL: http://toolbox.xilinx.com/docsan/xilinx7/books/docs/lib/lib.pdf
pins: O0 (in), O1 (in), O2 (in), O3 (in), O4 (in), O5 (in), O6 (in), O7 (in), O8 (in), O9 (in), O10 (in), O11 (in), O12 (in), O13 (in), O14 (in), O15 (in)

## OR2
designator U?
2-Input OR Gate; FPGAVendor: Xilinx; Published: 15-Sep-2003; Publisher: Altium Limited; HelpURL: http://toolbox.xilinx.com/docsan/xilinx7/books/docs/lib/lib.pdf
pins: I0 (in), I1 (in), O (out)

## OR2B1
designator U?
2-Input OR Gate with One Inverted Input; FPGAVendor: Xilinx; Published: 15-Sep-2003; Publisher: Altium Limited; HelpURL: http://toolbox.xilinx.com/docsan/xilinx7/books/docs/lib/lib.pdf
pins: I0 (in), I1 (in), O (out)

## OR2B2
designator U?
2-Input OR Gate with Two Inverted Inputs; FPGAVendor: Xilinx; Published: 15-Sep-2003; Publisher: Altium Limited; HelpURL: http://toolbox.xilinx.com/docsan/xilinx7/books/docs/lib/lib.pdf
pins: I0 (in), I1 (in), O (out)

## OR3
designator U?
3-Input OR Gate; FPGAVendor: Xilinx; Published: 15-Sep-2003; Publisher: Altium Limited; HelpURL: http://toolbox.xilinx.com/docsan/xilinx7/books/docs/lib/lib.pdf
pins: I0 (in), I1 (in), I2 (in), O (out)

## OR3B1
designator U?
3-Input OR Gate with One Inverted Input; FPGAVendor: Xilinx; Published: 15-Sep-2003; Publisher: Altium Limited; HelpURL: http://toolbox.xilinx.com/docsan/xilinx7/books/docs/lib/lib.pdf
pins: I0 (in), I1 (in), I2 (in), O (out)

## OR3B2
designator U?
3-Input OR Gate with Two Inverted Inputs; FPGAVendor: Xilinx; Published: 15-Sep-2003; Publisher: Altium Limited; HelpURL: http://toolbox.xilinx.com/docsan/xilinx7/books/docs/lib/lib.pdf
pins: I0 (in), I1 (in), I2 (in), O (out)

## OR3B3
designator U?
3-Input OR Gate with Three Inverted Inputs; FPGAVendor: Xilinx; Published: 15-Sep-2003; Publisher: Altium Limited; HelpURL: http://toolbox.xilinx.com/docsan/xilinx7/books/docs/lib/lib.pdf
pins: I0 (in), I1 (in), I2 (in), O (out)

## OR4
designator U?
4-Input OR Gate; FPGAVendor: Xilinx; Published: 15-Sep-2003; Publisher: Altium Limited; HelpURL: http://toolbox.xilinx.com/docsan/xilinx7/books/docs/lib/lib.pdf
pins: I0 (in), I1 (in), I2 (in), I3 (in), O (out)

## OR4B1
designator U?
4-Input OR Gate with One Inverted Input; FPGAVendor: Xilinx; Published: 15-Sep-2003; Publisher: Altium Limited; HelpURL: http://toolbox.xilinx.com/docsan/xilinx7/books/docs/lib/lib.pdf
pins: I0 (in), I1 (in), I2 (in), I3 (in), O (out)

## OR4B2
designator U?
4-Input OR Gate with Two Inverted Inputs; FPGAVendor: Xilinx; Published: 15-Sep-2003; Publisher: Altium Limited; HelpURL: http://toolbox.xilinx.com/docsan/xilinx7/books/docs/lib/lib.pdf
pins: I0 (in), I1 (in), I2 (in), I3 (in), O (out)

## OR4B3
designator U?
4-Input OR Gate with Three Inverted Inputs; FPGAVendor: Xilinx; Published: 15-Sep-2003; Publisher: Altium Limited; HelpURL: http://toolbox.xilinx.com/docsan/xilinx7/books/docs/lib/lib.pdf
pins: I0 (in), I1 (in), I2 (in), I3 (in), O (out)

## OR4B4
designator U?
4-Input OR Gate with Four Inverted Inputs; FPGAVendor: Xilinx; Published: 15-Sep-2003; Publisher: Altium Limited; HelpURL: http://toolbox.xilinx.com/docsan/xilinx7/books/docs/lib/lib.pdf
pins: I0 (in), I1 (in), I2 (in), I3 (in), O (out)

## OR5
designator U?
5-Input OR Gate; FPGAVendor: Xilinx; Published: 15-Sep-2003; Publisher: Altium Limited; HelpURL: http://toolbox.xilinx.com/docsan/xilinx7/books/docs/lib/lib.pdf
pins: I0 (in), I1 (in), I2 (in), I3 (in), I4 (in), O (out)

## OR5B1
designator U?
5-Input OR Gate with One Inverted Input; FPGAVendor: Xilinx; Published: 15-Sep-2003; Publisher: Altium Limited; HelpURL: http://toolbox.xilinx.com/docsan/xilinx7/books/docs/lib/lib.pdf
pins: I0 (in), I1 (in), I2 (in), I3 (in), I4 (in), O (out)

## OR5B2
designator U?
5-Input OR Gate with Two Inverted Inputs; FPGAVendor: Xilinx; Published: 15-Sep-2003; Publisher: Altium Limited; HelpURL: http://toolbox.xilinx.com/docsan/xilinx7/books/docs/lib/lib.pdf
pins: I0 (in), I1 (in), I2 (in), I3 (in), I4 (in), O (out)

## OR5B3
designator U?
5-Input OR Gate with Three Inverted Inputs; FPGAVendor: Xilinx; Published: 15-Sep-2003; Publisher: Altium Limited; HelpURL: http://toolbox.xilinx.com/docsan/xilinx7/books/docs/lib/lib.pdf
pins: I0 (in), I1 (in), I2 (in), I3 (in), I4 (in), O (out)

## OR5B4
designator U?
5-Input OR Gate with Four Inverted Inputs; FPGAVendor: Xilinx; Published: 15-Sep-2003; Publisher: Altium Limited; HelpURL: http://toolbox.xilinx.com/docsan/xilinx7/books/docs/lib/lib.pdf
pins: I0 (in), I1 (in), I2 (in), I3 (in), I4 (in), O (out)

## OR5B5
designator U?
5-Input OR Gate with Five Inverted Inputs; FPGAVendor: Xilinx; Published: 15-Sep-2003; Publisher: Altium Limited; HelpURL: http://toolbox.xilinx.com/docsan/xilinx7/books/docs/lib/lib.pdf
pins: I0 (in), I1 (in), I2 (in), I3 (in), I4 (in), O (out)

## OR6
designator U?
6-Input OR Gate; FPGAVendor: Xilinx; Published: 15-Sep-2003; Publisher: Altium Limited; HelpURL: http://toolbox.xilinx.com/docsan/xilinx7/books/docs/lib/lib.pdf
pins: I0 (in), I1 (in), I2 (in), I3 (in), I4 (in), I5 (in), O (out)

## OR7
designator U?
7-Input OR Gate; FPGAVendor: Xilinx; Published: 15-Sep-2003; Publisher: Altium Limited; HelpURL: http://toolbox.xilinx.com/docsan/xilinx7/books/docs/lib/lib.pdf
pins: I0 (in), I1 (in), I2 (in), I3 (in), I4 (in), I5 (in), I6 (in), O (out)

## OR8
designator U?
8-Input OR Gate; FPGAVendor: Xilinx; Published: 15-Sep-2003; Publisher: Altium Limited; HelpURL: http://toolbox.xilinx.com/docsan/xilinx7/books/docs/lib/lib.pdf
pins: I0 (in), I1 (in), I2 (in), I3 (in), I4 (in), I5 (in), I6 (in), I7 (in), O (out)

## OR9
designator U?
9-Input OR Gate; FPGAVendor: Xilinx; Published: 15-Sep-2003; Publisher: Altium Limited; HelpURL: http://toolbox.xilinx.com/docsan/xilinx7/books/docs/lib/lib.pdf
pins: I0 (in), I1 (in), I2 (in), I3 (in), I4 (in), I5 (in), I6 (in), I7 (in), I8 (in), O (out)

## OR12
designator U?
12-Input OR Gate; FPGAVendor: Xilinx; Published: 15-Sep-2003; Publisher: Altium Limited; HelpURL: http://toolbox.xilinx.com/docsan/xilinx7/books/docs/lib/lib.pdf
pins: I0 (in), I1 (in), I2 (in), I3 (in), I4 (in), I5 (in), I6 (in), I7 (in), I8 (in), I9 (in), I10 (in), I11 (in), O (out)

## OR16
designator U?
16-Input OR Gate; FPGAVendor: Xilinx; Published: 15-Sep-2003; Publisher: Altium Limited; HelpURL: http://toolbox.xilinx.com/docsan/xilinx7/books/docs/lib/lib.pdf
pins: I0 (in), I1 (in), I2 (in), I3 (in), I4 (in), I5 (in), I6 (in), I7 (in), I8 (in), I9 (in), I10 (in), I11 (in), I12 (in), I13 (in), I14 (in), I15 (in), O (out)

## PULLDOWN
designator U?
Resistor to GND for Input Pads; FPGAVendor: Xilinx; Published: 15-Sep-2003; Publisher: Altium Limited; HelpURL: http://toolbox.xilinx.com/docsan/xilinx7/books/docs/lib/lib.pdf
pins: O (out)

## PULLUP
designator U?
Resistor to VCC for Input PADs, Open-Drain, and 3-State Outputs; FPGAVendor: Xilinx; Published: 15-Sep-2003; Publisher: Altium Limited; HelpURL: http://toolbox.xilinx.com/docsan/xilinx7/books/docs/lib/lib.pdf
pins: O (out)

## RAM16X1D
designator U?
16-Deep by 1-Wide Static Dual Port Synchronous RAM; FPGAVendor: Xilinx; Published: 15-Sep-2003; Publisher: Altium Limited; HelpURL: http://toolbox.xilinx.com/docsan/xilinx7/books/docs/lib/lib.pdf
pins: A0 (in), A1 (in), A2 (in), A3 (in), D (in), DPO (out), DPRA0 (in), DPRA1 (in), DPRA2 (in), DPRA3 (in), SPO (out), WCLK (in), WE (in)

## RAM16X1D_1
designator U?
16-Deep by 1-Wide Static Dual Port Synchronous RAM with Negative-Edge Clock; FPGAVendor: Xilinx; Published: 15-Sep-2003; Publisher: Altium Limited; HelpURL: http://toolbox.xilinx.com/docsan/xilinx7/books/docs/lib/lib.pdf
pins: A0 (in), A1 (in), A2 (in), A3 (in), D (in), DPO (out), DPRA0 (in), DPRA1 (in), DPRA2 (in), DPRA3 (in), SPO (out), WCLK (in), WE (in)

## RAM16X1S
designator U?
16-Deep by 1-Wide Static Synchronous RAM; FPGAVendor: Xilinx; Published: 15-Sep-2003; Publisher: Altium Limited; HelpURL: http://toolbox.xilinx.com/docsan/xilinx7/books/docs/lib/lib.pdf
pins: A0 (in), A1 (in), A2 (in), A3 (in), D (in), O (out), WCLK (in), WE (in)

## RAM16X1S_1
designator U?
16-Deep by 1-Wide Static Synchronous RAM with Negative-Edge Clock; FPGAVendor: Xilinx; Published: 15-Sep-2003; Publisher: Altium Limited; HelpURL: http://toolbox.xilinx.com/docsan/xilinx7/books/docs/lib/lib.pdf
pins: A0 (in), A1 (in), A2 (in), A3 (in), D (in), O (out), WCLK (in), WE (in)

## RAM16X2S
designator U?
16-Deep by 2-Wide Static Synchronous RAM; FPGAVendor: Xilinx; Published: 15-Sep-2003; Publisher: Altium Limited; HelpURL: http://toolbox.xilinx.com/docsan/xilinx7/books/docs/lib/lib.pdf
pins: A0 (in), A1 (in), A2 (in), A3 (in), D0 (in), D1 (in), O0 (out), O1 (out), WCLK (in), WE (in)

## RAM16X4S
designator U?
16-Deep by 4-Wide Static Synchronous RAM; FPGAVendor: Xilinx; Published: 15-Sep-2003; Publisher: Altium Limited; HelpURL: http://toolbox.xilinx.com/docsan/xilinx7/books/docs/lib/lib.pdf
pins: A0 (in), A1 (in), A2 (in), A3 (in), D0 (in), D1 (in), D2 (in), D3 (in), O0 (out), O1 (out), O2 (out), O3 (out), WCLK (in), WE (in)

## RAM32X1S
designator U?
32-Deep by 1-Wide Static Synchronous RAM; FPGAVendor: Xilinx; Published: 15-Sep-2003; Publisher: Altium Limited; HelpURL: http://toolbox.xilinx.com/docsan/xilinx7/books/docs/lib/lib.pdf
pins: A0 (in), A1 (in), A2 (in), A3 (in), A4 (in), D (in), O (out), WCLK (in), WE (in)

## RAM32X1S_1
designator U?
32-Deep by 1-Wide Static Synchronous RAM with Negative-Edge Clock; FPGAVendor: Xilinx; Published: 15-Sep-2003; Publisher: Altium Limited; HelpURL: http://toolbox.xilinx.com/docsan/xilinx7/books/docs/lib/lib.pdf
pins: A0 (in), A1 (in), A2 (in), A3 (in), A4 (in), D (in), O (out), WCLK (in), WE (in)

## RAM32X2S
designator U?
32-Deep by 2-Wide Static Synchronous RAM; FPGAVendor: Xilinx; Published: 15-Sep-2003; Publisher: Altium Limited; HelpURL: http://toolbox.xilinx.com/docsan/xilinx7/books/docs/lib/lib.pdf
pins: A0 (in), A1 (in), A2 (in), A3 (in), A4 (in), D0 (in), D1 (in), O0 (out), O1 (out), WCLK (in), WE (in)

## RAM64X1S
designator U?
64-Deep by 1-Wide Static Synchronous RAM; FPGAVendor: Xilinx; Published: 15-Sep-2003; Publisher: Altium Limited; HelpURL: http://toolbox.xilinx.com/docsan/xilinx7/books/docs/lib/lib.pdf
pins: A0 (in), A1 (in), A2 (in), A3 (in), A4 (in), A5 (in), D (in), O (out), WCLK (in), WE (in)

## RAM64X1S_1
designator U?
64-Deep by 1-Wide Static Synchronous RAM with Negative-Edge Clock; FPGAVendor: Xilinx; Published: 15-Sep-2003; Publisher: Altium Limited; HelpURL: http://toolbox.xilinx.com/docsan/xilinx7/books/docs/lib/lib.pdf
pins: A0 (in), A1 (in), A2 (in), A3 (in), A4 (in), A5 (in), D (in), O (out), WCLK (in), WE (in)

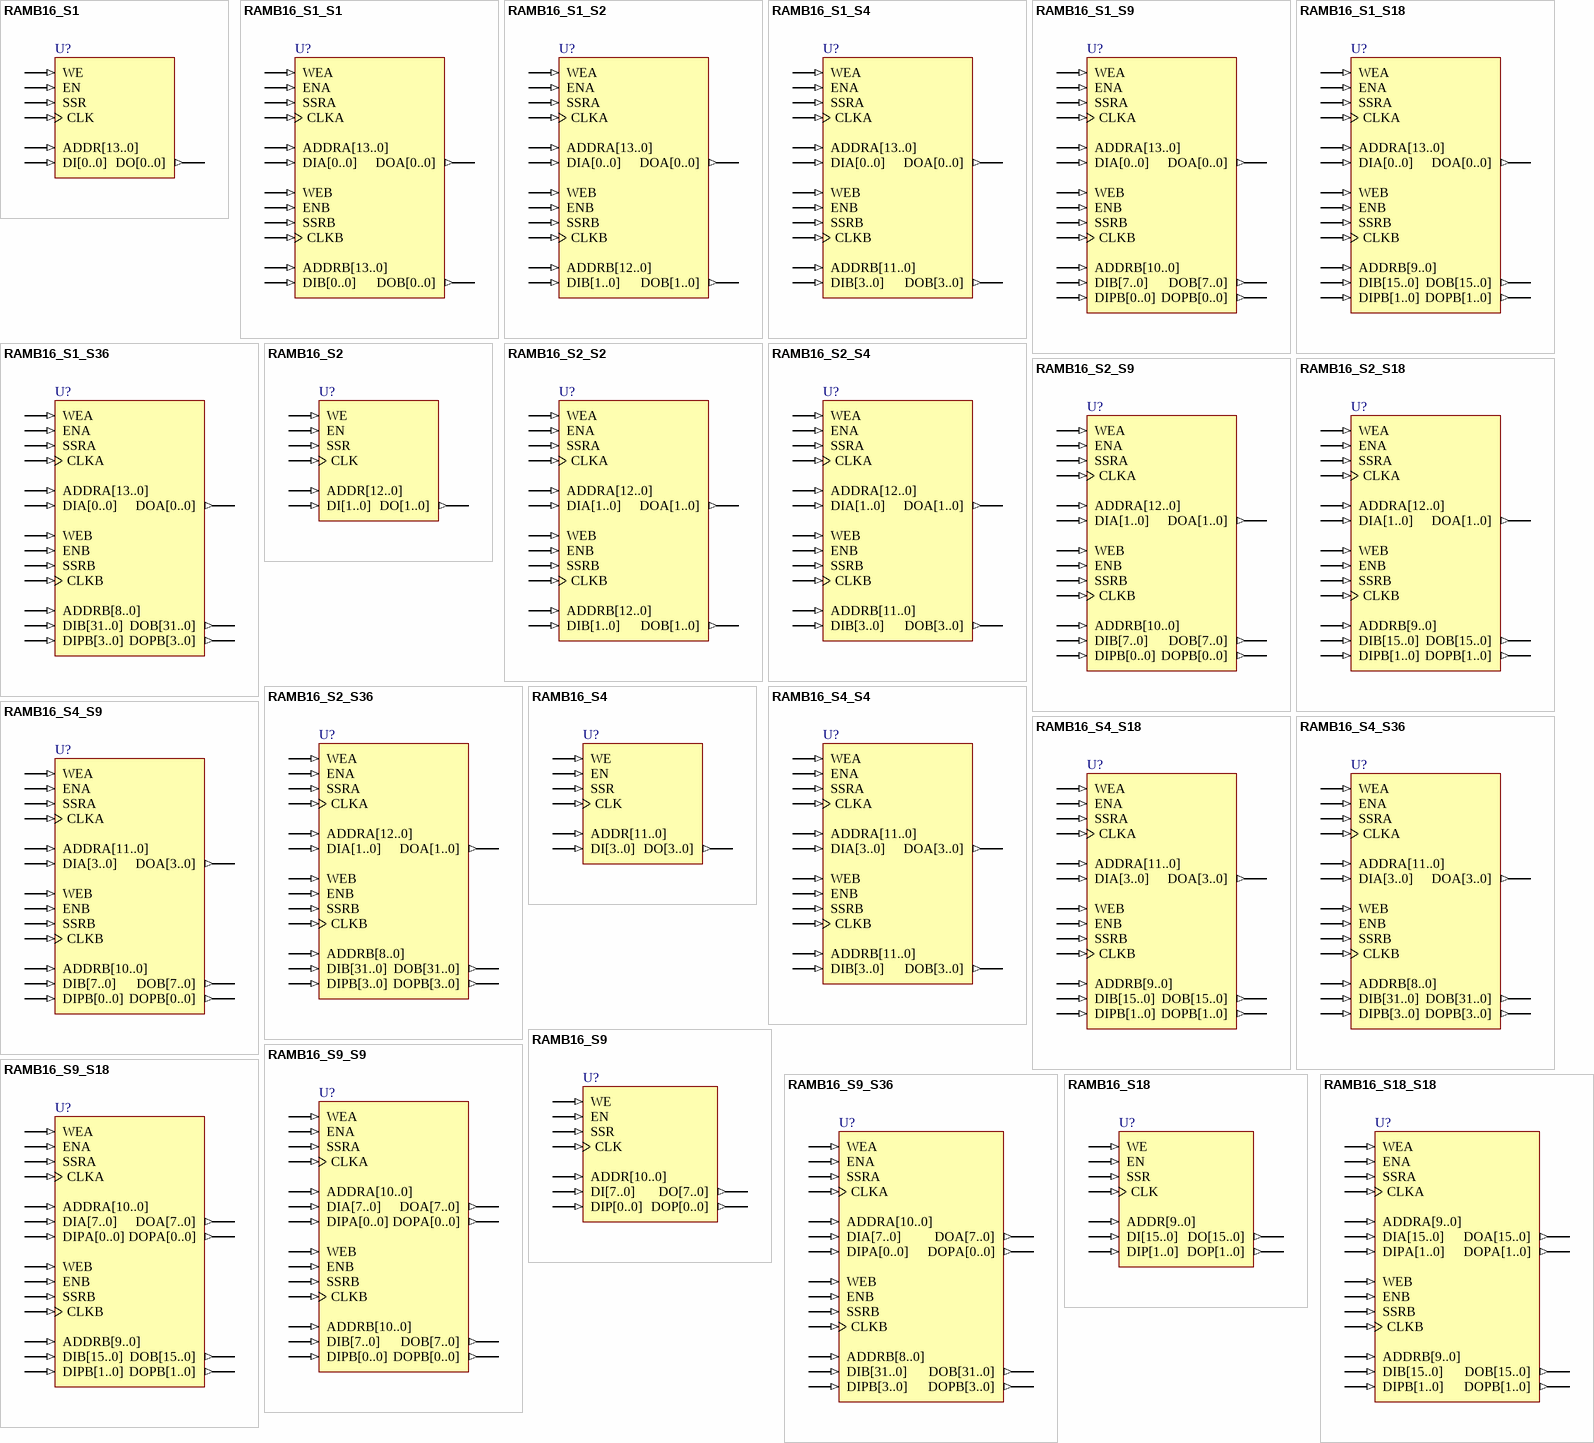
[diagram p26: symbols RAMB16_S1 to RAMB16_S18_S18]

## RAMB16_S1
designator U?
16384-Bit Data Memory and 2048-Bit Parity Memory, Single-Port Synchronous Block RAM with Port Width 1 Bit.; FPGAVendor: Xilinx; Published: 15-Sep-2003; Publisher: Altium Limited; HelpURL: http://toolbox.xilinx.com/docsan/xilinx7/books/docs/lib/lib.pdf
pins: ADDR[13..0] (in), CLK (in), DI[0..0] (in), DO[0..0] (out), EN (in), SSR (in), WE (in)

## RAMB16_S1_S1
designator U?
16384-Bit Data Memory and 2048-Bit Parity Memory, Dual-Port Synchronous Block RAM with Port Widths configured to 1 Bit and 1 Bit.; FPGAVendor: Xilinx; Published: 15-Sep-2003; Publisher: Altium Limited; HelpURL: http://toolbox.xilinx.com/docsan/xilinx7/books/docs/lib/lib.pdf
pins: ADDRA[13..0] (in), ADDRB[13..0] (in), CLKA (in), CLKB (in), DIA[0..0] (in), DIB[0..0] (in), DOA[0..0] (out), DOB[0..0] (out), ENA (in), ENB (in), SSRA (in), SSRB (in), WEA (in), WEB (in)

## RAMB16_S1_S2
designator U?
16384-Bit Data Memory and 2048-Bit Parity Memory, Dual-Port Synchronous Block RAM with Port Widths configured to 1 Bit and 2 Bits.; FPGAVendor: Xilinx; Published: 15-Sep-2003; Publisher: Altium Limited; HelpURL: http://toolbox.xilinx.com/docsan/xilinx7/books/docs/lib/lib.pdf
pins: ADDRA[13..0] (in), ADDRB[12..0] (in), CLKA (in), CLKB (in), DIA[0..0] (in), DIB[1..0] (in), DOA[0..0] (out), DOB[1..0] (out), ENA (in), ENB (in), SSRA (in), SSRB (in), WEA (in), WEB (in)

## RAMB16_S1_S4
designator U?
16384-Bit Data Memory and 2048-Bit Parity Memory, Dual-Port Synchronous Block RAM with Port Widths configured to 1 Bit and 4 Bits.; FPGAVendor: Xilinx; Published: 15-Sep-2003; Publisher: Altium Limited; HelpURL: http://toolbox.xilinx.com/docsan/xilinx7/books/docs/lib/lib.pdf
pins: ADDRA[13..0] (in), ADDRB[11..0] (in), CLKA (in), CLKB (in), DIA[0..0] (in), DIB[3..0] (in), DOA[0..0] (out), DOB[3..0] (out), ENA (in), ENB (in), SSRA (in), SSRB (in), WEA (in), WEB (in)

## RAMB16_S1_S9
designator U?
16384-Bit Data Memory and 2048-Bit Parity Memory, Dual-Port Synchronous Block RAM with Port Widths configured to 1 Bit and 9 Bits.; FPGAVendor: Xilinx; Published: 15-Sep-2003; Publisher: Altium Limited; HelpURL: http://toolbox.xilinx.com/docsan/xilinx7/books/docs/lib/lib.pdf
pins: ADDRA[13..0] (in), ADDRB[10..0] (in), CLKA (in), CLKB (in), DIA[0..0] (in), DIB[7..0] (in), DIPB[0..0] (in), DOA[0..0] (out), DOB[7..0] (out), DOPB[0..0] (out), ENA (in), ENB (in), SSRA (in), SSRB (in), WEA (in), WEB (in)

## RAMB16_S1_S18
designator U?
16384-Bit Data Memory and 2048-Bit Parity Memory, Dual-Port Synchronous Block RAM with Port Widths configured to 1 Bit and 18 Bits.; FPGAVendor: Xilinx; Published: 15-Sep-2003; Publisher: Altium Limited; HelpURL: http://toolbox.xilinx.com/docsan/xilinx7/books/docs/lib/lib.pdf
pins: ADDRA[13..0] (in), ADDRB[9..0] (in), CLKA (in), CLKB (in), DIA[0..0] (in), DIB[15..0] (in), DIPB[1..0] (in), DOA[0..0] (out), DOB[15..0] (out), DOPB[1..0] (out), ENA (in), ENB (in), SSRA (in), SSRB (in), WEA (in), WEB (in)

## RAMB16_S1_S36
designator U?
16384-Bit Data Memory and 2048-Bit Parity Memory, Dual-Port Synchronous Block RAM with Port Widths configured to 1 Bit and 36 Bits.; FPGAVendor: Xilinx; Published: 15-Sep-2003; Publisher: Altium Limited; HelpURL: http://toolbox.xilinx.com/docsan/xilinx7/books/docs/lib/lib.pdf
pins: ADDRA[13..0] (in), ADDRB[8..0] (in), CLKA (in), CLKB (in), DIA[0..0] (in), DIB[31..0] (in), DIPB[3..0] (in), DOA[0..0] (out), DOB[31..0] (out), DOPB[3..0] (out), ENA (in), ENB (in), SSRA (in), SSRB (in), WEA (in), WEB (in)

## RAMB16_S2
designator U?
16384-Bit Data Memory and 2048-Bit Parity Memory, Single-Port Synchronous Block RAM with Port Width 2 Bits.; FPGAVendor: Xilinx; Published: 15-Sep-2003; Publisher: Altium Limited; HelpURL: http://toolbox.xilinx.com/docsan/xilinx7/books/docs/lib/lib.pdf
pins: ADDR[12..0] (in), CLK (in), DI[1..0] (in), DO[1..0] (out), EN (in), SSR (in), WE (in)

## RAMB16_S2_S2
designator U?
16384-Bit Data Memory and 2048-Bit Parity Memory, Dual-Port Synchronous Block RAM with Port Widths configured to 2 Bits and 2 Bits.; FPGAVendor: Xilinx; Published: 15-Sep-2003; Publisher: Altium Limited; HelpURL: http://toolbox.xilinx.com/docsan/xilinx7/books/docs/lib/lib.pdf
pins: ADDRA[12..0] (in), ADDRB[12..0] (in), CLKA (in), CLKB (in), DIA[1..0] (in), DIB[1..0] (in), DOA[1..0] (out), DOB[1..0] (out), ENA (in), ENB (in), SSRA (in), SSRB (in), WEA (in), WEB (in)

## RAMB16_S2_S4
designator U?
16384-Bit Data Memory and 2048-Bit Parity Memory, Dual-Port Synchronous Block RAM with Port Widths configured to 2 Bits and 4 Bits.; FPGAVendor: Xilinx; Published: 15-Sep-2003; Publisher: Altium Limited; HelpURL: http://toolbox.xilinx.com/docsan/xilinx7/books/docs/lib/lib.pdf
pins: ADDRA[12..0] (in), ADDRB[11..0] (in), CLKA (in), CLKB (in), DIA[1..0] (in), DIB[3..0] (in), DOA[1..0] (out), DOB[3..0] (out), ENA (in), ENB (in), SSRA (in), SSRB (in), WEA (in), WEB (in)

## RAMB16_S2_S9
designator U?
16384-Bit Data Memory and 2048-Bit Parity Memory, Dual-Port Synchronous Block RAM with Port Widths configured to 2 Bits and 9 Bits.; FPGAVendor: Xilinx; Published: 15-Sep-2003; Publisher: Altium Limited; HelpURL: http://toolbox.xilinx.com/docsan/xilinx7/books/docs/lib/lib.pdf
pins: ADDRA[12..0] (in), ADDRB[10..0] (in), CLKA (in), CLKB (in), DIA[1..0] (in), DIB[7..0] (in), DIPB[0..0] (in), DOA[1..0] (out), DOB[7..0] (out), DOPB[0..0] (out), ENA (in), ENB (in), SSRA (in), SSRB (in), WEA (in), WEB (in)

## RAMB16_S2_S18
designator U?
16384-Bit Data Memory and 2048-Bit Parity Memory, Dual-Port Synchronous Block RAM with Port Widths configured to 2 Bits and 18 Bits.; FPGAVendor: Xilinx; Published: 15-Sep-2003; Publisher: Altium Limited; HelpURL: http://toolbox.xilinx.com/docsan/xilinx7/books/docs/lib/lib.pdf
pins: ADDRA[12..0] (in), ADDRB[9..0] (in), CLKA (in), CLKB (in), DIA[1..0] (in), DIB[15..0] (in), DIPB[1..0] (in), DOA[1..0] (out), DOB[15..0] (out), DOPB[1..0] (out), ENA (in), ENB (in), SSRA (in), SSRB (in), WEA (in), WEB (in)

## RAMB16_S2_S36
designator U?
16384-Bit Data Memory and 2048-Bit Parity Memory, Dual-Port Synchronous Block RAM with Port Widths configured to 2 Bits and 36 Bits.; FPGAVendor: Xilinx; Published: 15-Sep-2003; Publisher: Altium Limited; HelpURL: http://toolbox.xilinx.com/docsan/xilinx7/books/docs/lib/lib.pdf
pins: ADDRA[12..0] (in), ADDRB[8..0] (in), CLKA (in), CLKB (in), DIA[1..0] (in), DIB[31..0] (in), DIPB[3..0] (in), DOA[1..0] (out), DOB[31..0] (out), DOPB[3..0] (out), ENA (in), ENB (in), SSRA (in), SSRB (in), WEA (in), WEB (in)

## RAMB16_S4
designator U?
16384-Bit Data Memory and 2048-Bit Parity Memory, Single-Port Synchronous Block RAM with Port Width 4 Bits.; FPGAVendor: Xilinx; Published: 15-Sep-2003; Publisher: Altium Limited; HelpURL: http://toolbox.xilinx.com/docsan/xilinx7/books/docs/lib/lib.pdf
pins: ADDR[11..0] (in), CLK (in), DI[3..0] (in), DO[3..0] (out), EN (in), SSR (in), WE (in)

## RAMB16_S4_S4
designator U?
16384-Bit Data Memory and 2048-Bit Parity Memory, Dual-Port Synchronous Block RAM with Port Widths configured to 4 Bits and 4 Bits.; FPGAVendor: Xilinx; Published: 15-Sep-2003; Publisher: Altium Limited; HelpURL: http://toolbox.xilinx.com/docsan/xilinx7/books/docs/lib/lib.pdf
pins: ADDRA[11..0] (in), ADDRB[11..0] (in), CLKA (in), CLKB (in), DIA[3..0] (in), DIB[3..0] (in), DOA[3..0] (out), DOB[3..0] (out), ENA (in), ENB (in), SSRA (in), SSRB (in), WEA (in), WEB (in)

## RAMB16_S4_S9
designator U?
16384-Bit Data Memory and 2048-Bit Parity Memory, Dual-Port Synchronous Block RAM with Port Widths configured to 4 Bits and 9 Bits.; FPGAVendor: Xilinx; Published: 15-Sep-2003; Publisher: Altium Limited; HelpURL: http://toolbox.xilinx.com/docsan/xilinx7/books/docs/lib/lib.pdf
pins: ADDRA[11..0] (in), ADDRB[10..0] (in), CLKA (in), CLKB (in), DIA[3..0] (in), DIB[7..0] (in), DIPB[0..0] (in), DOA[3..0] (out), DOB[7..0] (out), DOPB[0..0] (out), ENA (in), ENB (in), SSRA (in), SSRB (in), WEA (in), WEB (in)

## RAMB16_S4_S18
designator U?
16384-Bit Data Memory and 2048-Bit Parity Memory, Dual-Port Synchronous Block RAM with Port Widths configured to 4 Bits and 18 Bits.; FPGAVendor: Xilinx; Published: 15-Sep-2003; Publisher: Altium Limited; HelpURL: http://toolbox.xilinx.com/docsan/xilinx7/books/docs/lib/lib.pdf
pins: ADDRA[11..0] (in), ADDRB[9..0] (in), CLKA (in), CLKB (in), DIA[3..0] (in), DIB[15..0] (in), DIPB[1..0] (in), DOA[3..0] (out), DOB[15..0] (out), DOPB[1..0] (out), ENA (in), ENB (in), SSRA (in), SSRB (in), WEA (in), WEB (in)

## RAMB16_S4_S36
designator U?
16384-Bit Data Memory and 2048-Bit Parity Memory, Dual-Port Synchronous Block RAM with Port Widths configured to 4 Bits and 36 Bits.; FPGAVendor: Xilinx; Published: 15-Sep-2003; Publisher: Altium Limited; HelpURL: http://toolbox.xilinx.com/docsan/xilinx7/books/docs/lib/lib.pdf
pins: ADDRA[11..0] (in), ADDRB[8..0] (in), CLKA (in), CLKB (in), DIA[3..0] (in), DIB[31..0] (in), DIPB[3..0] (in), DOA[3..0] (out), DOB[31..0] (out), DOPB[3..0] (out), ENA (in), ENB (in), SSRA (in), SSRB (in), WEA (in), WEB (in)

## RAMB16_S9
designator U?
16384-Bit Data Memory and 2048-Bit Parity Memory, Single-Port Synchronous Block RAM with Port Width 9 Bits.; FPGAVendor: Xilinx; Published: 15-Sep-2003; Publisher: Altium Limited; HelpURL: http://toolbox.xilinx.com/docsan/xilinx7/books/docs/lib/lib.pdf
pins: ADDR[10..0] (in), CLK (in), DI[7..0] (in), DIP[0..0] (in), DO[7..0] (out), DOP[0..0] (out), EN (in), SSR (in), WE (in)